# Altium footprint library MCU.PcbLib: 2 footprints
Each footprint in its own frame and in the unit in brackets; x right, y up, seen from the top. Pads: shape width x height; smd on the part's side, far side on the other; paste and mask are expansions set on the pad; w line width, h text height; cw(c..) or ccw(c..) is an arc to the next point about the centre after c.
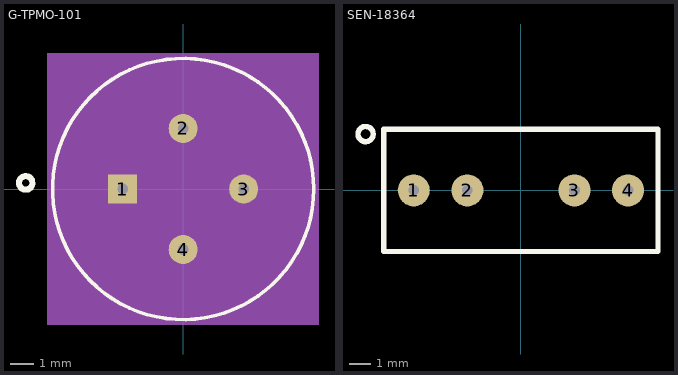
[diagram p0: the footprints below, top view; thin cyan lines are the x and y axes]

## G-TPMO-101 [mil]
pads (4):
  rect 48x48 hole 17.72 mask+0: 1(-100,0)
  round 48 hole 17.72 mask+0: 2(0,100) 3(100,0) 4(0,-100)
Top Overlay:
  circle w6: c0,0 r215.75
  lines w10: -249.39,13.54 ccw(c-260,10) -248.82,10
Mechanical 5:
  region: 224.41,-224.41 -224.41,-224.41 -224.41,224.41 224.41,224.41
Mechanical 13:
  circle w0: c0,0 r184
3D body: height 10, standoff 0, extent 0,0 10,10

## SEN-18364 [mil]
pads (4):
  round 60 hole 19.68: 1(-200,0) 2(-100,0) 3(100,0) 4(200,0)
Top Overlay:
  circle w10: c-290,105 r14.14
  lines w10: -255.91,-114.17 255.91,-114.17 255.91,114.17 -255.91,114.17 -255.91,-114.17